# EAGLE library part FPC-51WAY (library pimoroni-fpc)
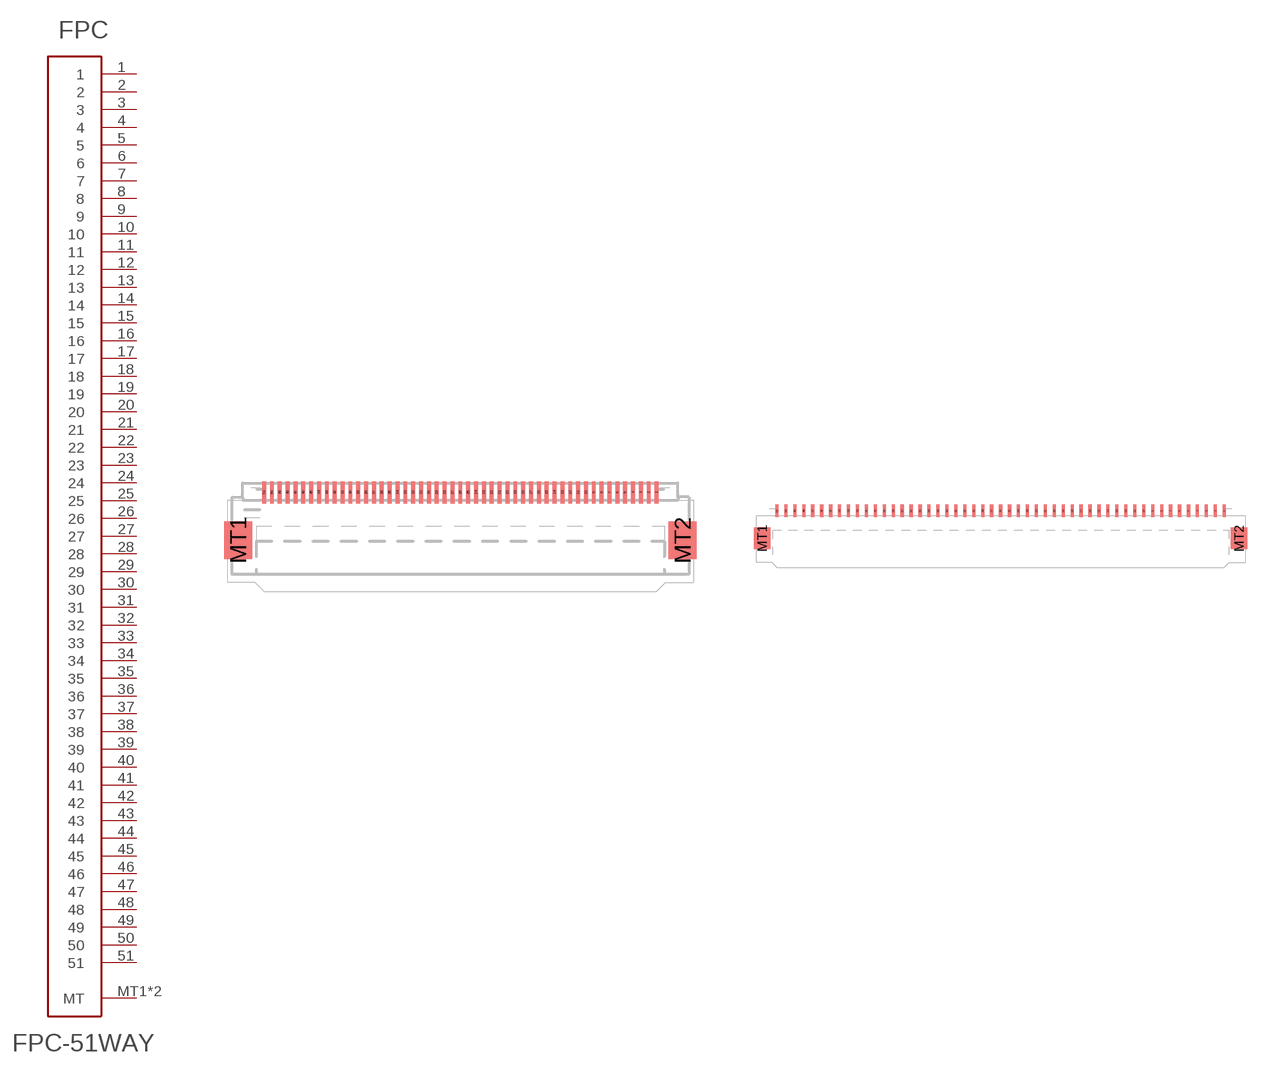
[diagram p46: symbol with the pads of FPC-0.5MM-51WAY; footprints FPC-0.5MM-51WAY, FPC-1.0MM-51WAY]

Designator prefix FPC

## FPC-51WAY0.5  [FPC-0.5MM-51WAY]
1  1
2  2
3  3
4  4
5  5
6  6
7  7
8  8
9  9
10  10
11  11
12  12
13  13
14  14
15  15
16  16
17  17
18  18
19  19
20  20
21  21
22  22
23  23
24  24
25  25
26  26
27  27
28  28
29  29
30  30
31  31
32  32
33  33
34  34
35  35
36  36
37  37
38  38
39  39
40  40
41  41
42  42
43  43
44  44
45  45
46  46
47  47
48  48
49  49
50  50
51  51
MT1  MT
MT2  MT

## FPC-51WAY1.0  [FPC-1.0MM-51WAY]
Pads as for FPC-0.5MM-51WAY

## Footprint FPC-0.5MM-51WAY (pad centres in mm)
smd 0.25 x 1.4: 1 12.5,0.7; 2 12,0.7; 3 11.5,0.7; 4 11,0.7; 5 10.5,0.7; 6 10,0.7; 7 9.5,0.7; 8 9,0.7; 9 8.5,0.7; 10 8,0.7; 11 7.5,0.7; 12 7,0.7; 13 6.5,0.7; 14 6,0.7; 15 5.5,0.7; 16 5,0.7; 17 4.5,0.7; 18 4,0.7; 19 3.5,0.7; 20 3,0.7; 21 2.5,0.7; 22 2,0.7; 23 1.5,0.7; 24 1,0.7; 25 0.5,0.7; 26 0,0.7; 27 -0.5,0.7; 28 -1,0.7; 29 -1.5,0.7; 30 -2,0.7; 31 -2.5,0.7; 32 -3,0.7; 33 -3.5,0.7; 34 -4,0.7; 35 -4.5,0.7; 36 -5,0.7; 37 -5.5,0.7; 38 -6,0.7; 39 -6.5,0.7; 40 -7,0.7; 41 -7.5,0.7; 42 -8,0.7; 43 -8.5,0.7; 44 -9,0.7; 45 -9.5,0.7; 46 -10,0.7; 47 -10.5,0.7; 48 -11,0.7; 49 -11.5,0.7; 50 -12,0.7; 51 -12.5,0.7
smd 1.8 x 2.4: MT1 -14.15,-2.35; MT2 14.15,-2.35

## Footprint FPC-1.0MM-51WAY (pad centres in mm)
smd 0.35 x 1.4: 1 25,0.7; 2 24,0.7; 3 23,0.7; 4 22,0.7; 5 21,0.7; 6 20,0.7; 7 19,0.7; 8 18,0.7; 9 17,0.7; 10 16,0.7; 11 15,0.7; 12 14,0.7; 13 13,0.7; 14 12,0.7; 15 11,0.7; 16 10,0.7; 17 9,0.7; 18 8,0.7; 19 7,0.7; 20 6,0.7; 21 5,0.7; 22 4,0.7; 23 3,0.7; 24 2,0.7; 25 1,0.7; 26 0,0.7; 27 -1,0.7; 28 -2,0.7; 29 -3,0.7; 30 -4,0.7; 31 -5,0.7; 32 -6,0.7; 33 -7,0.7; 34 -8,0.7; 35 -9,0.7; 36 -10,0.7; 37 -11,0.7; 38 -12,0.7; 39 -13,0.7; 40 -14,0.7; 41 -15,0.7; 42 -16,0.7; 43 -17,0.7; 44 -18,0.7; 45 -19,0.7; 46 -20,0.7; 47 -21,0.7; 48 -22,0.7; 49 -23,0.7; 50 -24,0.7; 51 -25,0.7
smd 1.8 x 2.4: MT1 -26.65,-2.35; MT2 26.65,-2.35